# EAGLE library part 3D_SCHOTTKY (library dubec)
Diode Array 3 Independent Schottky
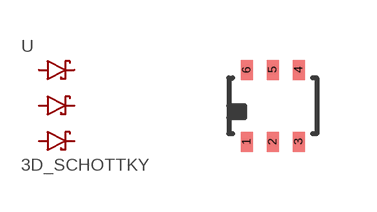
[diagram p20: symbol with the pads of SOT-363; footprint SOT-363]

Designator prefix -

## 3D_SCHOTTKY30V_0.35V (DIGIKEY_PART_#: BAT54TW-FDICT-ND; EURO: 2.84/10; MANUFACTURER: Diodes Incorporated; MFG_PART_#: BAT54TW-7-F)  [SOT-363]
1  A1  pas
2  A2  pas
3  A3  pas
4  C3  pas
5  C2  pas
6  C1  pas

## Footprint SOT-363 (pad centres in mm)
smd 0.3 x 0.5: 1 -0.65,-0.9; 2 0,-0.9; 3 0.65,-0.9; 4 0.65,0.9; 5 0,0.9; 6 -0.65,0.9